# Altium footprint library Common.PcbLib: 50 footprints (part 1 of 4)
Each footprint in its own frame and in the unit in brackets; x right, y up, seen from the top. Pads: shape width x height; smd on the part's side, far side on the other; paste and mask are expansions set on the pad; w line width, h text height; cw(c..) or ccw(c..) is an arc to the next point about the centre after c.
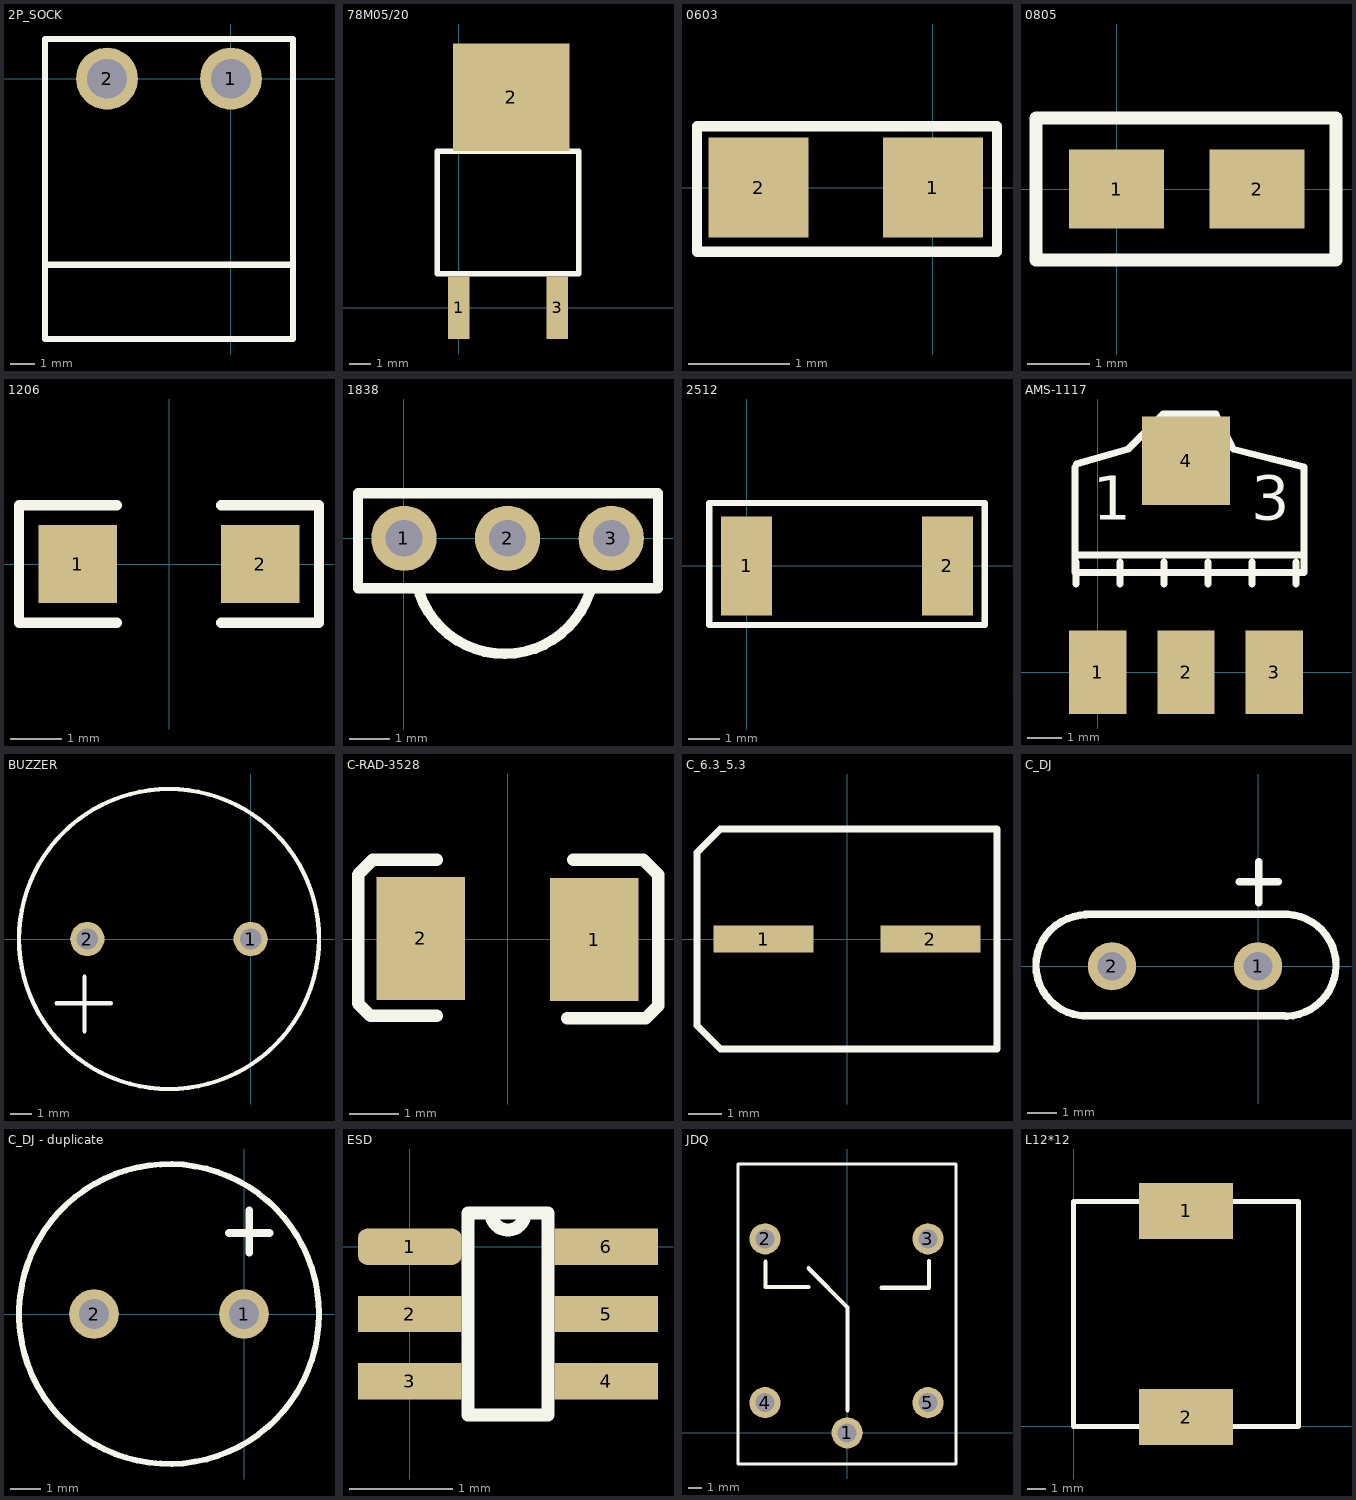
[diagram p0: the footprints below, top view; thin cyan lines are the x and y axes]

## 2P_SOCK [mm]
pads (2):
  round 2.5 hole 1.6: 1(0,0) 2(-5,0)
Top Overlay:
  lines w0.254: -7.5,-7.5 2.5,-7.5 ; -7.5,-10.5 -7.5,1.6 2.5,1.6 2.5,-10.5 -7.5,-10.5

## 78M05/20 [mm]
pads (3):
  rect 1x2.9 smd: 1(0,0) 3(4.6,0)
  rect 5.4x5 smd: 2(2.45,9.8)
Top Overlay:
  lines w0.254: -1,1.575 5.6,1.575 5.6,7.275 -1,7.275 -1,1.575

## 0603 [mil]
pads (2):
  rect 39x39 smd: 1(0,0) 2(-68,0)
Top Overlay:
  lines w4: -92,-25 -92,24 25,24 25,-25 -91,-25

## 0805 [mil]
pads (2):
  rect 60x50 smd: 1(0,0) 2(89.02,0)
Top Overlay:
  lines w8: -50.98,-45 139.02,-45 139.02,45 -50.98,45 -50.98,-45

## 1206 [mil]
pads (2):
  rect 60x60 smd: 1(-70,0) 2(70,0)
Top Overlay:
  lines w7.87: -40,-45 -115,-45 -115,45 -40,45 ; 40,-45 115,-45 115,45 40,45
3D body: height 39.37, standoff 0, extent -75,-35 -55,35
3D body: height 39.37, standoff 0, extent 55,-35 75,35
3D body: height 39.37, standoff 0, extent -55,-35 55,35

## 1838 [mm]
pads (3):
  round 1.6 hole 0.9: 1(0,0) 2(2.54,0) 3(5.08,0)
Top Overlay:
  lines w0.254: 0.381,-1.347 ccw(c2.462,-0.629) 4.55,-1.325 ; -1.125,-1.225 6.225,-1.225 6.225,1.1 -1.125,1.1 -1.125,-1.225

## 2512 [mm]
pads (2):
  rect 1.65x3.2 smd: 1(0,0) 2(6.48,0)
Top Overlay:
  lines w0.2: -1.205,-1.905 7.685,-1.905 7.685,2.032 -1.205,2.032 -1.205,0.52 -1.205,-1.905

## AMS-1117 [mil]
pads (4):
  rect 65x94.49 smd: 1(0,0) 2(100,0) 3(200,0)
  rect 100x100 smd: 4(100,240)
Top Overlay:
  lines w7.87: -26,233 -26,133 ; -25,100 -25,125 ; -24.33,236.33 34,253 74,293 134,293 154,253 234,233 234,113 ; 25,100 25,125 ; 75,100 75,125 ; 125,100 125,125 ; 175,100 175,125 ; 225,100 225,125 ; -26,133 -26,113 234,113 ; -26,133 234,133 234,113
  text "1" at -6,173 h50
  text "3" at 174,173 h50

## BUZZER [mm]
pads (2):
  round 1.6 hole 0.991: 1(0,0) 2(-7.62,0)
Top Overlay:
  circle w0.2: c-3.81,0 r7
  lines w0.2: -9.065,-3 -6.525,-3 ; -7.75,-4.3 -7.75,-1.76

## C-RAD-3528 [mm] "贴片电容"
height 3
pads (2):
  rect 1.8x2.5 smd: 1(1.763,-0.012) 2(-1.762,0.012)
Top Overlay:
  lines w0.254: -1.438,-1.563 -2.784,-1.563 -3.038,-1.309 -3.038,1.309 -2.735,1.612 -1.438,1.612 ; 1.212,-1.612 2.804,-1.612 3.058,-1.358 3.058,1.309 2.804,1.563 2.755,1.612 1.338,1.612

## C_6.3_5.3 [mm]
pads (2):
  rect 3x0.8 smd: 1(-2.5,0) 2(2.5,0)
Top Overlay:
  lines w0.2: -4.5,-2.6 -3.8,-3.3 4.5,-3.3 4.5,3.3 -3.8,3.3 -4.5,2.6 -4.5,2.5 -4.5,0 -4.5,-2.5 -4.5,-2.6

## C_DJ [mil]
pads (2):
  round 65 hole 39: 1(0,0) 2(-196.85,0)
Top Overlay:
  lines w10: -236.22,-66.93 35.43,-66.93 ; -233.27,69.88 29.53,69.88 ; -231.21,-67.04 cw(c-231.21,1.05) -231.21,69.15 ; -25.59,114.17 27.56,114.17 ; 0.98,85.63 0.98,140.75 ; 29.53,-66.93 ccw(c36.48,1.39) 31.5,69.88

## C_DJ - duplicate [mil]
pads (2):
  round 65 hole 39: 1(0,0) 2(-196.85,0)
Top Overlay:
  circle w7.87: c-98.43,0 r196.85
  lines w10: -19.69,106.3 33.46,106.3 ; 6.89,80.71 6.89,135.83

## ESD [mm]
pads (6):
  rrect50% 1x0.35 smd: 1(0,0)
  rect 1x0.35 smd: 2(0,-0.65) 3(0,-1.3) 4(1.9,-1.3) 5(1.9,-0.65) 6(1.9,0)
Top Overlay:
  lines w0.127: 0.565,-1.625 1.335,-1.625 1.335,0.325 0.787,0.325 ccw(c0.95,0.325) 1.112,0.325 0.565,0.325 0.565,-1.625

## JDQ [mil]
pads (5):
  round 90 hole 55: 1(0,0) 2(-237,560) 3(233,560) 4(-237,87) 5(233,87)
Top Overlay:
  lines w8: 311,776 -315,776 -315,-90 314,-90 314,776
  lines w12: -236,494 -236,421 -112,421 ; -112,475 1,362 1,299 1,65 ; 99,419 236,419 236,496

## L12*12 [mm]
pads (2):
  rect 5x3 smd: 1(6,11.5) 2(6,0.5)
Top Overlay:
  lines w0.254: 0,0 12,0 12,12 0,12 0,0